# EAGLE library part MC9S08LL16CLH (library MC9S08LL16CLH)
MCU 8-bit S08 CISC 16KB Flash 2.5V/3.3V 64-Pin LQFP Tray Source: Datasheet <http://www.nxp.com/docs/en/data-sheet/MC9S08LL16.pdf>
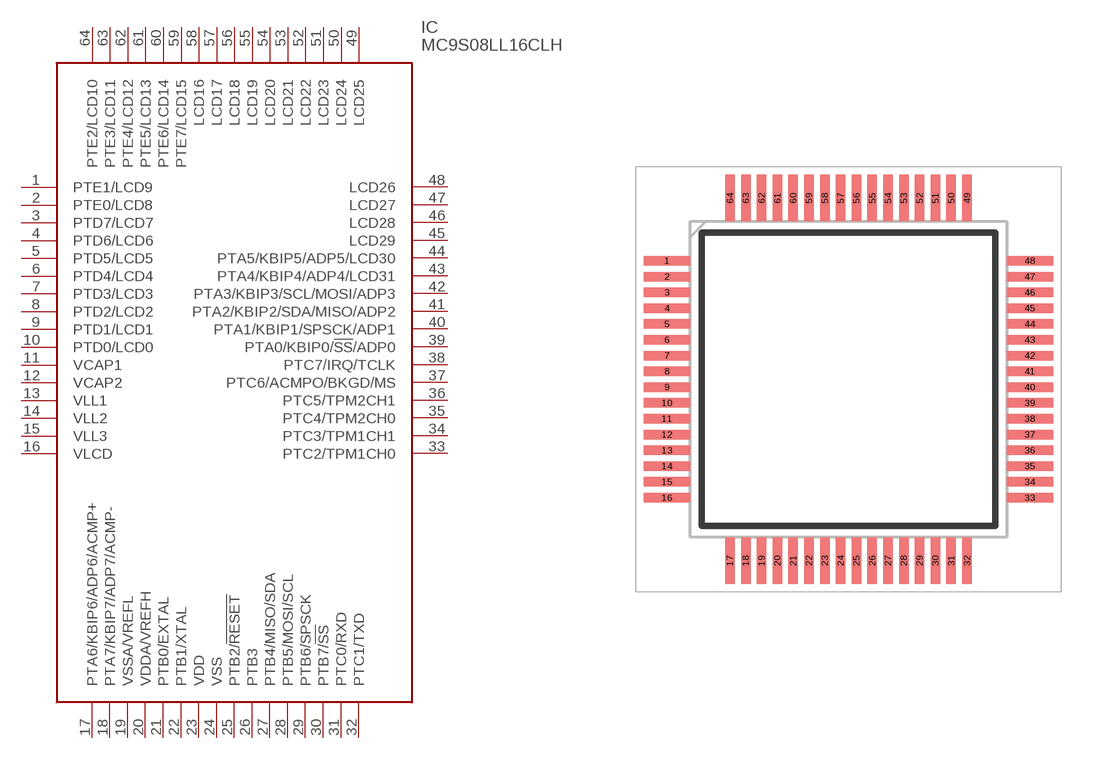
[diagram p0: symbol with the pads of QFP50P1200X1200X160-64N; footprint QFP50P1200X1200X160-64N]

Designator prefix IC

## MC9S08LL16CLH (Arrow_Part_Number: MC9S08LL16CLH; Arrow_Price-Stock: https://www.arrow.com/en/products/mc9s08ll16clh/nxp-semiconductors; Description: MCU 8-bit S08 CISC 16KB Flash 2.5V/3.3V 64-Pin LQFP Tray; Height: 1.6mm; Manufacturer_Name: NXP; Manufacturer_Part_Number: MC9S08LL16CLH; Mouser_Part_Number: 841-MC9S08LL16CLH; Mouser_Price-Stock: https://www.mouser.com/Search/Refine.aspx?Keyword=841-MC9S08LL16CLH)  [QFP50P1200X1200X160-64N]
1  PTE1/LCD9
2  PTE0/LCD8
3  PTD7/LCD7
4  PTD6/LCD6
5  PTD5/LCD5
6  PTD4/LCD4
7  PTD3/LCD3
8  PTD2/LCD2
9  PTD1/LCD1
10  PTD0/LCD0
11  VCAP1
12  VCAP2
13  VLL1
14  VLL2
15  VLL3
16  VLCD
17  PTA6/KBIP6/ADP6/ACMP+
18  PTA7/KBIP7/ADP7/ACMP-
19  VSSA/VREFL
20  VDDA/VREFH
21  PTB0/EXTAL
22  PTB1/XTAL
23  VDD
24  VSS
25  PTB2/!RESET
26  PTB3
27  PTB4/MISO/SDA
28  PTB5/MOSI/SCL
29  PTB6/SPSCK
30  PTB7/!SS
31  PTC0/RXD
32  PTC1/TXD
33  PTC2/TPM1CH0
34  PTC3/TPM1CH1
35  PTC4/TPM2CH0
36  PTC5/TPM2CH1
37  PTC6/ACMPO/BKGD/MS
38  PTC7/IRQ/TCLK
39  PTA0/KBIP0/!SS!/ADP0
40  PTA1/KBIP1/SPSCK/ADP1
41  PTA2/KBIP2/SDA/MISO/ADP2
42  PTA3/KBIP3/SCL/MOSI/ADP3
43  PTA4/KBIP4/ADP4/LCD31
44  PTA5/KBIP5/ADP5/LCD30
45  LCD29
46  LCD28
47  LCD27
48  LCD26
49  LCD25
50  LCD24
51  LCD23
52  LCD22
53  LCD21
54  LCD20
55  LCD19
56  LCD18
57  LCD17
58  LCD16
59  PTE7/LCD15
60  PTE6/LCD14
61  PTE5/LCD13
62  PTE4/LCD12
63  PTE3/LCD11
64  PTE2/LCD10

## Footprint QFP50P1200X1200X160-64N (pad centres in mm)
LQFP64-2021
smd 1.475 x 0.3: 1 -5.738,3.75; 2 -5.738,3.25; 3 -5.738,2.75; 4 -5.738,2.25; 5 -5.738,1.75; 6 -5.738,1.25; 7 -5.738,0.75; 8 -5.738,0.25; 9 -5.738,-0.25; 10 -5.738,-0.75; 11 -5.738,-1.25; 12 -5.738,-1.75; 13 -5.738,-2.25; 14 -5.738,-2.75; 15 -5.738,-3.25; 16 -5.738,-3.75; 33 5.738,-3.75; 34 5.738,-3.25; 35 5.738,-2.75; 36 5.738,-2.25; 37 5.738,-1.75; 38 5.738,-1.25; 39 5.738,-0.75; 40 5.738,-0.25; 41 5.738,0.25; 42 5.738,0.75; 43 5.738,1.25; 44 5.738,1.75; 45 5.738,2.25; 46 5.738,2.75; 47 5.738,3.25; 48 5.738,3.75
smd 0.3 x 1.475: 17 -3.75,-5.738; 18 -3.25,-5.738; 19 -2.75,-5.738; 20 -2.25,-5.738; 21 -1.75,-5.738; 22 -1.25,-5.738; 23 -0.75,-5.738; 24 -0.25,-5.738; 25 0.25,-5.738; 26 0.75,-5.738; 27 1.25,-5.738; 28 1.75,-5.738; 29 2.25,-5.738; 30 2.75,-5.738; 31 3.25,-5.738; 32 3.75,-5.738; 49 3.75,5.738; 50 3.25,5.738; 51 2.75,5.738; 52 2.25,5.738; 53 1.75,5.738; 54 1.25,5.738; 55 0.75,5.738; 56 0.25,5.738; 57 -0.25,5.738; 58 -0.75,5.738; 59 -1.25,5.738; 60 -1.75,5.738; 61 -2.25,5.738; 62 -2.75,5.738; 63 -3.25,5.738; 64 -3.75,5.738